# EAGLE library part BNX0?* (library Filter)
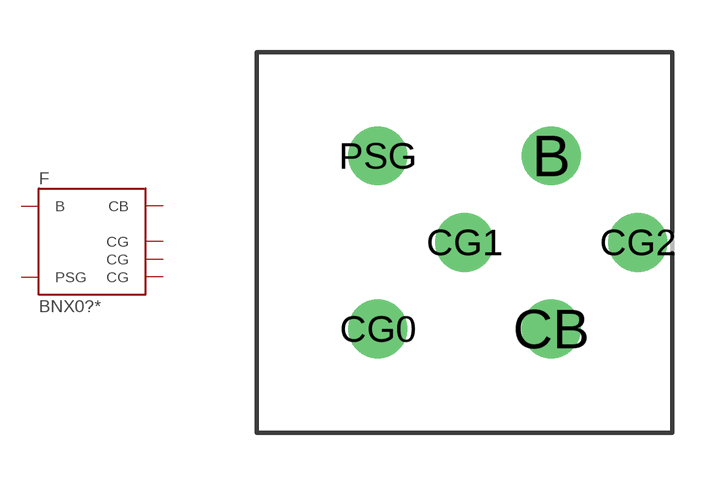
[diagram p0: symbol with the pads of BNX00_01; footprint BNX00_01]

Designator prefix F

## BNX012-01, BNX016-01  [BNX00_01]
B  B  pas
CB  CB  pas
CG0  CG  pas
CG1  CG  pas
CG2  CG  pas
PSG  PSG  pas

## BNX002-01, BNX003-01, BNX005-01  [BNX00_01]

## Footprint BNX00_01 (pad centres in mm)
drill 1.1 pad 1.7: B 2.5,2.5; CB 2.5,-2.5; CG0 -2.5,-2.5; CG1 0,0; CG2 5,0; PSG -2.5,2.5